# Altium footprint library switch.PcbLib: 2 footprints
Each footprint in its own frame and in the unit in brackets; x right, y up, seen from the top. Pads: shape width x height; smd on the part's side, far side on the other; paste and mask are expansions set on the pad; w line width, h text height; cw(c..) or ccw(c..) is an arc to the next point about the centre after c.
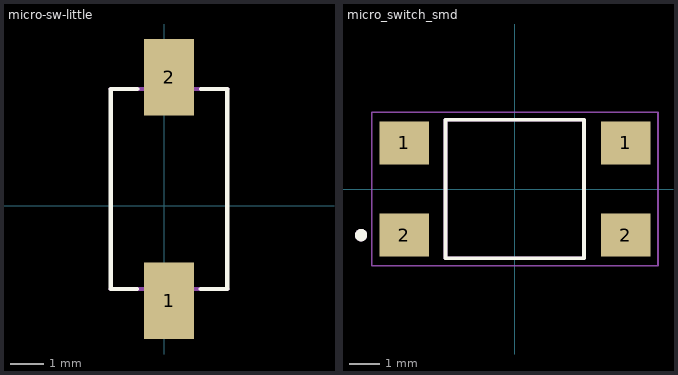
[diagram p0: the footprints below, top view; thin cyan lines are the x and y axes]

## micro-sw-little [mm]
pads (2):
  rect 1.5x2.3 smd: 1(0.142,-2.842) 2(0.142,3.858)
Top Overlay:
  lines w0.127: -1.608,3.508 -1.608,-2.492 -0.818,-2.492 ; -1.598,3.508 -0.808,3.508 ; 1.092,-2.492 1.882,-2.492 ; 1.102,3.508 1.892,3.508 1.892,-2.492
Mechanical 4:
  lines w0.127: -1.608,-2.492 1.892,-2.492 -1.608,-2.492 ; -1.608,3.508 1.892,3.508 -1.608,3.508
  text "1" at 0.892,-0.842 h0.8
  text "1" at 0.892,-0.842 h0.8
3D body "User Library-Tact switch 1181_3.sldprt": height 2.4, standoff -0.1, extent -1.658,-3.492 1.942,4.508

## micro_switch_smd [mm]
pads (4):
  rect 1.6x1.4 smd: 1(-3.6,1.5) 1(3.6,1.5) 2(-3.6,-1.5) 2(3.6,-1.5)
Top Overlay:
  circle w0.2: c-5,-1.5 r0.1
  lines w0.127: -2.25,-2.25 2.25,-2.25 2.25,2.25 -2.25,2.25 -2.25,-2.25
Mechanical 13:
  circle w0.2: c-5,-1.5 r0.1
  lines w0.127: -2.25,-2.25 2.25,-2.25 2.25,2.25 -2.25,2.25 -2.25,-2.25
Mechanical 15:
  lines w0.05: -4.65,-2.5 4.65,-2.5 4.65,2.5 -4.65,2.5 -4.65,-2.5
3D body "step_temp.STEP": height 3.7, standoff -0.1, extent -3.75,-2.25 3.75,2.25